# EAGLE library part DRV8711DCPR (library Gate_Drivers)
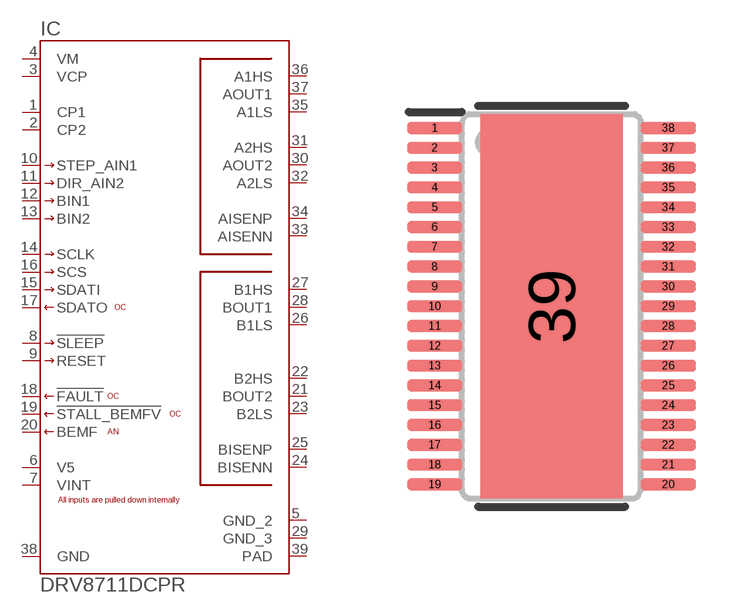
[diagram p4: symbol with the pads of DCP0038A_N; footprint DCP0038A_N]

Designator prefix IC

## DRV8711DCPR (MANUFACTURER: Texas Instruments; PARTNUMBER: DRV8711DCPR; REFDES: RefDes; TYPE: TYPE; VALUE: Value)  [DCP0038A_N]
1  CP1  pas
2  CP2  pas
3  VCP  pas
4  VM  pwr
5  GND_2  pwr
6  V5  pwr
7  VINT  pwr
8  !SLEEP  in
9  RESET  in
10  STEP_AIN1  in
11  DIR_AIN2  in
12  BIN1  in
13  BIN2  in
14  SCLK  in
15  SDATI  in
16  SCS  in
17  SDATO  oc
18  !FAULT  oc
19  !STALL_BEMFV  oc
20  BEMF  out
21  BOUT2  in
22  B2HS  out
23  B2LS  out
24  BISENN  in
25  BISENP  in
26  B1LS  out
27  B1HS  out
28  BOUT1  in
29  GND_3  pwr
30  AOUT2  in
31  A2HS  out
32  A2LS  out
33  AISENN  in
34  AISENP  in
35  A1LS  out
36  A1HS  out
37  AOUT1  in
38  GND  pwr
39  PAD  pwr

## Footprint DCP0038A_N (pad centres in mm)
smd 1.4 x 0.3: 1 -2.95,4.5; 2 -2.95,4; 3 -2.95,3.5; 4 -2.95,3; 5 -2.95,2.5; 6 -2.95,2; 7 -2.95,1.5; 8 -2.95,1; 9 -2.95,0.5; 10 -2.95,0; 11 -2.95,-0.5; 12 -2.95,-1; 13 -2.95,-1.5; 14 -2.95,-2; 15 -2.95,-2.5; 16 -2.95,-3; 17 -2.95,-3.5; 18 -2.95,-4; 19 -2.95,-4.5; 20 2.95,-4.5; 21 2.95,-4; 22 2.95,-3.5; 23 2.95,-3; 24 2.95,-2.5; 25 2.95,-2; 26 2.95,-1.5; 27 2.95,-1; 28 2.95,-0.5; 29 2.95,0; 30 2.95,0.5; 31 2.95,1; 32 2.95,1.5; 33 2.95,2; 34 2.95,2.5; 35 2.95,3; 36 2.95,3.5; 37 2.95,4; 38 2.95,4.5
smd 3.6 x 9.7: 39 0,0